# EAGLE library part MAX15054 (library _RoweTel)
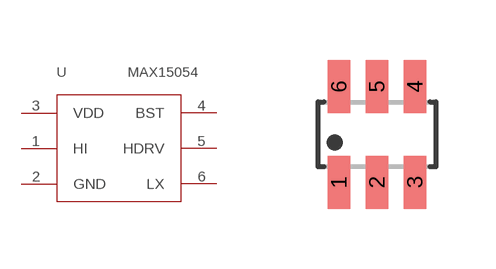
[diagram p38: symbol with the pads of SOT23-6L; footprint SOT23-6L]

Designator prefix U

## MAX15054  [SOT23-6L]
1  HI  in
2  GND  pwr
3  VDD  pwr
4  BST  pwr
5  HDRV  out
6  LX  in

## Footprint SOT23-6L (pad centres in mm)
smd 0.56 x 1.33: 1 -0.95,-1.2; 2 0,-1.2; 3 0.95,-1.2; 4 0.95,1.2; 5 0,1.2; 6 -0.95,1.2